# Altium integrated library NSC Switcher.IntLib: 916 symbols (part 21 of 23)
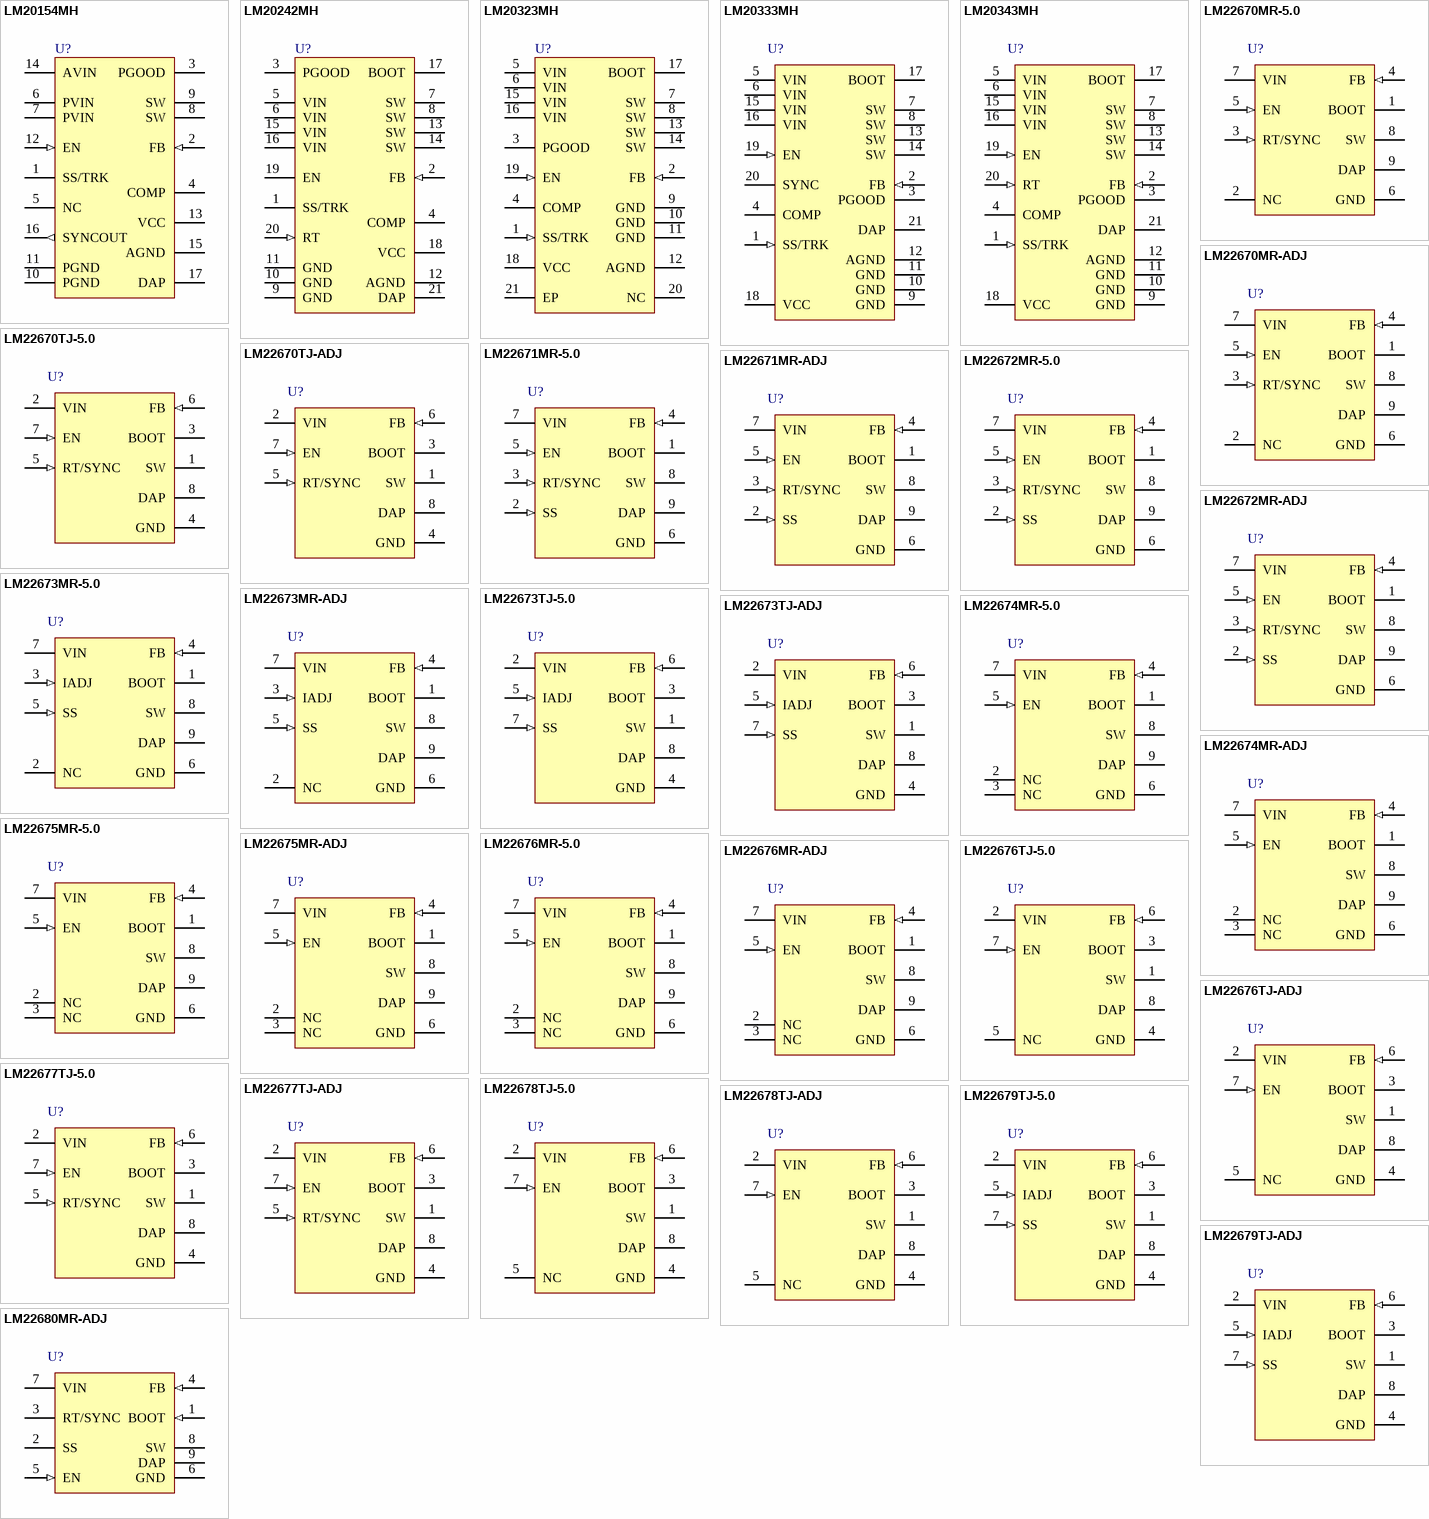
[diagram p48: symbols LM20154MH to LM22680MR-ADJ]

## LM22670MR-ADJ
designator U?
3A SIMPLE SWITCHER, Step-Down Voltage Regulator with Synchronization or Adjustable Switching Frequency; PartNumber: LM22670MR-ADJ; Manufacturer: National Semiconductor; PackageTopMarking: NSXYTT*L22670*ADJ; PowerWise: N; Published: 4-Dec-2008; DatasheetVersion: Oct-2008; PackageVersion: revB, Dec-2007; PackageReference: MRA08B; Publisher: Altium Limited; PackageDescription: Molded, PSOP .193 x .154 x .058in, 8 Lead, .050in Pitch, Large DAP; CompType: Switcher; RoHS: Y; PinCount: 8; DigiKeyPartNumber: LM22670MR-ADJ-ND; Code_JEDEC: MS-012-AA; ComponentLink1Description: LM22670 Datasheet; ComponentLink1URL: http://www.national.com/ds/LM/LM22670.pdf; ComponentLink2Description: LM22670 Web Page; ComponentLink2URL: http://www.national.com/pf/LM/LM22670.html; ComponentLink3Description: MRA08B Package Drawing; ComponentLink3URL: http://www.national.com/packaging/folders/mra08b.html
footprint MRA08B_N (SOIC, 8-Leads, Body 4.9x3.9mm, Pitch 1.27mm, Exposed Pad, IPC Medium Density)
footprint MRA08B_L (SOIC, 8-Leads, Body 4.9x3.9mm, Pitch 1.27mm, Exposed Pad, IPC High Density)
footprint MRA08B_M (SOIC, 8-Leads, Body 4.9x3.9mm, Pitch 1.27mm, Exposed Pad, IPC Low Density)
pins: 1 BOOT, 2 NC, 3 RT/SYNC (in), 4 FB (in), 5 EN (in), 6 GND (power), 7 VIN (power), 8 SW (power), 9 DAP (power)

## LM22670TJ-5.0
designator U?
3A SIMPLE SWITCHER, Step-Down Voltage Regulator with Synchronization or Adjustable Switching Frequency; PartNumber: LM22670TJ-5.0; Manufacturer: National Semiconductor; PackageTopMarking: NSUZXYTTE#*LM22670*TJ-5.0; PowerWise: N; Published: 4-Dec-2008; DatasheetVersion: Oct-2008; PackageVersion: revC, Jan-2008; PackageReference: TJ7A; Publisher: Altium Limited; PackageDescription: Thin TO-263, Molded, 9.85 x 10.16 x 2mm Body, 7 Lead, 1.7mm Pitch, Surface Mount; CompType: Switcher; RoHS: Y; PinCount: 7; DigiKeyPartNumber: LM22670TJ-5.0-ND; ComponentLink1Description: LM22670 Datasheet; ComponentLink1URL: http://www.national.com/ds/LM/LM22670.pdf; ComponentLink2Description: LM22670 Web Page; ComponentLink2URL: http://www.national.com/pf/LM/LM22670.html; ComponentLink3Description: TJ7A Package Drawing; ComponentLink3URL: http://www.national.com/packaging/folders/tj7a.html
footprint TJ7A_N (D2-PAK, 8-Leads, Body 9.9x10.2mm, Pitch 1.27mm, Lead Span 14mm, IPC Medium Density)
footprint TJ7A_L (D2-PAK, 8-Leads, Body 9.9x10.2mm, Pitch 1.27mm, Lead Span 14mm, IPC High Density)
footprint TJ7A_M (D2-PAK, 8-Leads, Body 9.9x10.2mm, Pitch 1.27mm, Lead Span 14mm, IPC Low Density)
pins: 1 SW (power), 2 VIN (power), 3 BOOT, 4 GND (power), 5 RT/SYNC (in), 6 FB (in), 7 EN (in), 8 DAP (power)

## LM22670TJ-ADJ
designator U?
3A SIMPLE SWITCHER, Step-Down Voltage Regulator with Synchronization or Adjustable Switching Frequency; PartNumber: LM22670TJ-ADJ; Manufacturer: National Semiconductor; PackageTopMarking: NSUZXYTTE#*LM22670*TJ-ADJ; PowerWise: N; Published: 4-Dec-2008; DatasheetVersion: Oct-2008; PackageVersion: revC, Jan-2008; PackageReference: TJ7A; Publisher: Altium Limited; PackageDescription: Thin TO-263, Molded, 9.85 x 10.16 x 2mm Body, 7 Lead, 1.7mm Pitch, Surface Mount; CompType: Switcher; RoHS: Y; PinCount: 7; DigiKeyPartNumber: LM22670TJ-ADJ-ND; ComponentLink1Description: LM22670 Datasheet; ComponentLink1URL: http://www.national.com/ds/LM/LM22670.pdf; ComponentLink2Description: LM22670 Web Page; ComponentLink2URL: http://www.national.com/pf/LM/LM22670.html; ComponentLink3Description: TJ7A Package Drawing; ComponentLink3URL: http://www.national.com/packaging/folders/tj7a.html
footprint TJ7A_N (D2-PAK, 8-Leads, Body 9.9x10.2mm, Pitch 1.27mm, Lead Span 14mm, IPC Medium Density)
footprint TJ7A_L (D2-PAK, 8-Leads, Body 9.9x10.2mm, Pitch 1.27mm, Lead Span 14mm, IPC High Density)
footprint TJ7A_M (D2-PAK, 8-Leads, Body 9.9x10.2mm, Pitch 1.27mm, Lead Span 14mm, IPC Low Density)
pins: 1 SW (power), 2 VIN (power), 3 BOOT, 4 GND (power), 5 RT/SYNC (in), 6 FB (in), 7 EN (in), 8 DAP (power)

## LM22671MR-5.0
designator U?
500mA SIMPLE SWITCHER, Step-Down Voltage Regulator with Features; PartNumber: LM22671MR-5.0; Manufacturer: National Semiconductor; PackageTopMarking: NSXYTT*L22671*5.0; PowerWise: N; Published: 4-Dec-2008; DatasheetVersion: Oct-2008; PackageVersion: revB, Dec-2007; PackageReference: MRA08B; Publisher: Altium Limited; PackageDescription: Molded, PSOP .193 x .154 x .058in, 8 Lead, .050in Pitch, Large DAP; CompType: Switcher; RoHS: Y; PinCount: 8; DigiKeyPartNumber: LM22671MR-5.0-ND; Code_JEDEC: MS-012-AA; ComponentLink1Description: LM22671 Datasheet; ComponentLink1URL: http://www.national.com/ds/LM/LM22671.pdf; ComponentLink2Description: LM22671 Web Page; ComponentLink2URL: http://www.national.com/pf/LM/LM22671.html; ComponentLink3Description: MRA08B Package Drawing; ComponentLink3URL: http://www.national.com/packaging/folders/mra08b.html
footprint MRA08B_N (SOIC, 8-Leads, Body 4.9x3.9mm, Pitch 1.27mm, Exposed Pad, IPC Medium Density)
footprint MRA08B_L (SOIC, 8-Leads, Body 4.9x3.9mm, Pitch 1.27mm, Exposed Pad, IPC High Density)
footprint MRA08B_M (SOIC, 8-Leads, Body 4.9x3.9mm, Pitch 1.27mm, Exposed Pad, IPC Low Density)
pins: 1 BOOT, 2 SS (in), 3 RT/SYNC (in), 4 FB (in), 5 EN (in), 6 GND (power), 7 VIN (power), 8 SW (power), 9 DAP (power)

## LM22671MR-ADJ
designator U?
500mA SIMPLE SWITCHER, Step-Down Voltage Regulator with Features; PartNumber: LM22671MR-ADJ; Manufacturer: National Semiconductor; PackageTopMarking: NSXYTT*L22671*ADJ; PowerWise: N; Published: 4-Dec-2008; DatasheetVersion: Oct-2008; PackageVersion: revB, Dec-2007; PackageReference: MRA08B; Publisher: Altium Limited; PackageDescription: Molded, PSOP .193 x .154 x .058in, 8 Lead, .050in Pitch, Large DAP; CompType: Switcher; RoHS: Y; PinCount: 8; DigiKeyPartNumber: LM22671MR-ADJ-ND; Code_JEDEC: MS-012-AA; ComponentLink1Description: LM22671 Datasheet; ComponentLink1URL: http://www.national.com/ds/LM/LM22671.pdf; ComponentLink2Description: LM22671 Web Page; ComponentLink2URL: http://www.national.com/pf/LM/LM22671.html; ComponentLink3Description: MRA08B Package Drawing; ComponentLink3URL: http://www.national.com/packaging/folders/mra08b.html
footprint MRA08B_N (SOIC, 8-Leads, Body 4.9x3.9mm, Pitch 1.27mm, Exposed Pad, IPC Medium Density)
footprint MRA08B_L (SOIC, 8-Leads, Body 4.9x3.9mm, Pitch 1.27mm, Exposed Pad, IPC High Density)
footprint MRA08B_M (SOIC, 8-Leads, Body 4.9x3.9mm, Pitch 1.27mm, Exposed Pad, IPC Low Density)
pins: 1 BOOT, 2 SS (in), 3 RT/SYNC (in), 4 FB (in), 5 EN (in), 6 GND (power), 7 VIN (power), 8 SW (power), 9 DAP (power)

## LM22672MR-5.0
designator U?
1A SIMPLE SWITCHER, Step-Down Voltage Regulator with Features; PartNumber: LM22672MR-5.0; Manufacturer: National Semiconductor; PackageTopMarking: NSXYTT*L22672*5.0; PowerWise: N; Published: 4-Dec-2008; DatasheetVersion: Oct-2008; PackageVersion: revB, Dec-2007; PackageReference: MRA08B; Publisher: Altium Limited; PackageDescription: Molded, PSOP .193 x .154 x .058in, 8 Lead, .050in Pitch, Large DAP; CompType: Switcher; RoHS: Y; PinCount: 8; Code_JEDEC: MS-012-AA; ComponentLink1Description: LM22672 Datasheet; ComponentLink1URL: http://www.national.com/ds/LM/LM22672.pdf; ComponentLink2Description: LM22672 Web Page; ComponentLink2URL: http://www.national.com/pf/LM/LM22672.html; ComponentLink3Description: MRA08B Package Drawing; ComponentLink3URL: http://www.national.com/packaging/folders/mra08b.html
footprint MRA08B_N (SOIC, 8-Leads, Body 4.9x3.9mm, Pitch 1.27mm, Exposed Pad, IPC Medium Density)
footprint MRA08B_L (SOIC, 8-Leads, Body 4.9x3.9mm, Pitch 1.27mm, Exposed Pad, IPC High Density)
footprint MRA08B_M (SOIC, 8-Leads, Body 4.9x3.9mm, Pitch 1.27mm, Exposed Pad, IPC Low Density)
pins: 1 BOOT, 2 SS (in), 3 RT/SYNC (in), 4 FB (in), 5 EN (in), 6 GND (power), 7 VIN (power), 8 SW (power), 9 DAP (power)

## LM22672MR-ADJ
designator U?
1A SIMPLE SWITCHER, Step-Down Voltage Regulator with Features; PartNumber: LM22672MR-ADJ; Manufacturer: National Semiconductor; PackageTopMarking: NSXYTT*L22672*ADJ; PowerWise: N; Published: 4-Dec-2008; DatasheetVersion: Oct-2008; PackageVersion: revB, Dec-2007; PackageReference: MRA08B; Publisher: Altium Limited; PackageDescription: Molded, PSOP .193 x .154 x .058in, 8 Lead, .050in Pitch, Large DAP; CompType: Switcher; RoHS: Y; PinCount: 8; DigiKeyPartNumber: LM22672MR-ADJ-ND; Code_JEDEC: MS-012-AA; ComponentLink1Description: LM22672 Datasheet; ComponentLink1URL: http://www.national.com/ds/LM/LM22672.pdf; ComponentLink2Description: LM22672 Web Page; ComponentLink2URL: http://www.national.com/pf/LM/LM22672.html; ComponentLink3Description: MRA08B Package Drawing; ComponentLink3URL: http://www.national.com/packaging/folders/mra08b.html
footprint MRA08B_N (SOIC, 8-Leads, Body 4.9x3.9mm, Pitch 1.27mm, Exposed Pad, IPC Medium Density)
footprint MRA08B_L (SOIC, 8-Leads, Body 4.9x3.9mm, Pitch 1.27mm, Exposed Pad, IPC High Density)
footprint MRA08B_M (SOIC, 8-Leads, Body 4.9x3.9mm, Pitch 1.27mm, Exposed Pad, IPC Low Density)
pins: 1 BOOT, 2 SS (in), 3 RT/SYNC (in), 4 FB (in), 5 EN (in), 6 GND (power), 7 VIN (power), 8 SW (power), 9 DAP (power)

## LM22673MR-5.0
designator U?
3A SIMPLE SWITCHER, Step-Down Voltage Regulator with Adjustable Soft-Start and Current Limit; PartNumber: LM22673MR-5.0; Manufacturer: National Semiconductor; PackageTopMarking: NSXYTT*L22673*5.0; PowerWise: N; Published: 4-Dec-2008; DatasheetVersion: Nov-2008; PackageVersion: revB, Dec-2007; PackageReference: MRA08B; Publisher: Altium Limited; PackageDescription: Molded, PSOP .193 x .154 x .058in, 8 Lead, .050in Pitch, Large DAP; CompType: Switcher; RoHS: Y; PinCount: 8; DigiKeyPartNumber: LM22673MR-5.0-ND; Code_JEDEC: MS-012-AA; ComponentLink1Description: LM22673 Datasheet; ComponentLink1URL: http://www.national.com/ds/LM/LM22673.pdf; ComponentLink2Description: LM22673 Web Page; ComponentLink2URL: http://www.national.com/pf/LM/LM22673.html; ComponentLink3Description: MRA08B Package Drawing; ComponentLink3URL: http://www.national.com/packaging/folders/mra08b.html
footprint MRA08B_N (SOIC, 8-Leads, Body 4.9x3.9mm, Pitch 1.27mm, Exposed Pad, IPC Medium Density)
footprint MRA08B_L (SOIC, 8-Leads, Body 4.9x3.9mm, Pitch 1.27mm, Exposed Pad, IPC High Density)
footprint MRA08B_M (SOIC, 8-Leads, Body 4.9x3.9mm, Pitch 1.27mm, Exposed Pad, IPC Low Density)
pins: 1 BOOT, 2 NC, 3 IADJ (in), 4 FB (in), 5 SS (in), 6 GND (power), 7 VIN (power), 8 SW (power), 9 DAP (power)

## LM22673MR-ADJ
designator U?
3A SIMPLE SWITCHER, Step-Down Voltage Regulator with Adjustable Soft-Start and Current Limit; PartNumber: LM22673MR-ADJ; Manufacturer: National Semiconductor; PackageTopMarking: NSXYTT*L22673*ADJ; PowerWise: N; Published: 4-Dec-2008; DatasheetVersion: Nov-2008; PackageVersion: revB, Dec-2007; PackageReference: MRA08B; Publisher: Altium Limited; PackageDescription: Molded, PSOP .193 x .154 x .058in, 8 Lead, .050in Pitch, Large DAP; CompType: Switcher; RoHS: Y; PinCount: 8; DigiKeyPartNumber: LM22673MR-ADJ-ND; Code_JEDEC: MS-012-AA; ComponentLink1Description: LM22673 Datasheet; ComponentLink1URL: http://www.national.com/ds/LM/LM22673.pdf; ComponentLink2Description: LM22673 Web Page; ComponentLink2URL: http://www.national.com/pf/LM/LM22673.html; ComponentLink3Description: MRA08B Package Drawing; ComponentLink3URL: http://www.national.com/packaging/folders/mra08b.html
footprint MRA08B_N (SOIC, 8-Leads, Body 4.9x3.9mm, Pitch 1.27mm, Exposed Pad, IPC Medium Density)
footprint MRA08B_L (SOIC, 8-Leads, Body 4.9x3.9mm, Pitch 1.27mm, Exposed Pad, IPC High Density)
footprint MRA08B_M (SOIC, 8-Leads, Body 4.9x3.9mm, Pitch 1.27mm, Exposed Pad, IPC Low Density)
pins: 1 BOOT, 2 NC, 3 IADJ (in), 4 FB (in), 5 SS (in), 6 GND (power), 7 VIN (power), 8 SW (power), 9 DAP (power)

## LM22673TJ-5.0
designator U?
3A SIMPLE SWITCHER, Step-Down Voltage Regulator with Adjustable Soft-Start and Current Limit; PartNumber: LM22673TJ-5.0; Manufacturer: National Semiconductor; PackageTopMarking: NSUZXYTTE#*LM22673*TJ-5.0; PowerWise: N; Published: 4-Dec-2008; DatasheetVersion: Nov-2008; PackageVersion: revC, Jan-2008; PackageReference: TJ7A; Publisher: Altium Limited; PackageDescription: Thin TO-263, Molded, 9.85 x 10.16 x 2mm Body, 7 Lead, 1.7mm Pitch, Surface Mount; CompType: Switcher; RoHS: Y; PinCount: 7; DigiKeyPartNumber: LM22673TJ-5.0-ND; ComponentLink1Description: LM22673 Datasheet; ComponentLink1URL: http://www.national.com/ds/LM/LM22673.pdf; ComponentLink2Description: LM22673 Web Page; ComponentLink2URL: http://www.national.com/pf/LM/LM22673.html; ComponentLink3Description: TJ7A Package Drawing; ComponentLink3URL: http://www.national.com/packaging/folders/tj7a.html
footprint TJ7A_N (D2-PAK, 8-Leads, Body 9.9x10.2mm, Pitch 1.27mm, Lead Span 14mm, IPC Medium Density)
footprint TJ7A_L (D2-PAK, 8-Leads, Body 9.9x10.2mm, Pitch 1.27mm, Lead Span 14mm, IPC High Density)
footprint TJ7A_M (D2-PAK, 8-Leads, Body 9.9x10.2mm, Pitch 1.27mm, Lead Span 14mm, IPC Low Density)
pins: 1 SW (power), 2 VIN (power), 3 BOOT, 4 GND (power), 5 IADJ (in), 6 FB (in), 7 SS (in), 8 DAP (power)

## LM22673TJ-ADJ
designator U?
3A SIMPLE SWITCHER, Step-Down Voltage Regulator with Adjustable Soft-Start and Current Limit; PartNumber: LM22673TJ-ADJ; Manufacturer: National Semiconductor; PackageTopMarking: NSUZXYTTE#*LM22673*TJ-ADJ; PowerWise: N; Published: 4-Dec-2008; DatasheetVersion: Nov-2008; PackageVersion: revC, Jan-2008; PackageReference: TJ7A; Publisher: Altium Limited; PackageDescription: Thin TO-263, Molded, 9.85 x 10.16 x 2mm Body, 7 Lead, 1.7mm Pitch, Surface Mount; CompType: Switcher; RoHS: Y; PinCount: 7; DigiKeyPartNumber: LM22673TJ-ADJ-ND; ComponentLink1Description: LM22673 Datasheet; ComponentLink1URL: http://www.national.com/ds/LM/LM22673.pdf; ComponentLink2Description: LM22673 Web Page; ComponentLink2URL: http://www.national.com/pf/LM/LM22673.html; ComponentLink3Description: TJ7A Package Drawing; ComponentLink3URL: http://www.national.com/packaging/folders/tj7a.html
footprint TJ7A_N (D2-PAK, 8-Leads, Body 9.9x10.2mm, Pitch 1.27mm, Lead Span 14mm, IPC Medium Density)
footprint TJ7A_L (D2-PAK, 8-Leads, Body 9.9x10.2mm, Pitch 1.27mm, Lead Span 14mm, IPC High Density)
footprint TJ7A_M (D2-PAK, 8-Leads, Body 9.9x10.2mm, Pitch 1.27mm, Lead Span 14mm, IPC Low Density)
pins: 1 SW (power), 2 VIN (power), 3 BOOT, 4 GND (power), 5 IADJ (in), 6 FB (in), 7 SS (in), 8 DAP (power)

## LM22674MR-5.0
designator U?
500mA SIMPLE SWITCHER, Step-Down Voltage Regulator with Precision Enable; PartNumber: LM22674MR-5.0; Manufacturer: National Semiconductor; PackageTopMarking: NSXYTT*L22674*5.0; PowerWise: N; Published: 4-Dec-2008; DatasheetVersion: Oct-2008; PackageVersion: revB, Dec-2007; PackageReference: MRA08B; Publisher: Altium Limited; PackageDescription: Molded, PSOP .193 x .154 x .058in, 8 Lead, .050in Pitch, Large DAP; CompType: Switcher; RoHS: Y; PinCount: 8; DigiKeyPartNumber: LM22674MR-5.0-ND; Code_JEDEC: MS-012-AA; ComponentLink1Description: LM22674 Datasheet; ComponentLink1URL: http://www.national.com/ds/LM/LM22674.pdf; ComponentLink2Description: LM22674 Web Page; ComponentLink2URL: http://www.national.com/pf/LM/LM22674.html; ComponentLink3Description: MRA08B Package Drawing; ComponentLink3URL: http://www.national.com/packaging/folders/mra08b.html
footprint MRA08B_N (SOIC, 8-Leads, Body 4.9x3.9mm, Pitch 1.27mm, Exposed Pad, IPC Medium Density)
footprint MRA08B_L (SOIC, 8-Leads, Body 4.9x3.9mm, Pitch 1.27mm, Exposed Pad, IPC High Density)
footprint MRA08B_M (SOIC, 8-Leads, Body 4.9x3.9mm, Pitch 1.27mm, Exposed Pad, IPC Low Density)
pins: 1 BOOT, 2 NC, 3 NC, 4 FB (in), 5 EN (in), 6 GND (power), 7 VIN (power), 8 SW (power), 9 DAP (power)

## LM22674MR-ADJ
designator U?
500mA SIMPLE SWITCHER, Step-Down Voltage Regulator with Precision Enable; PartNumber: LM22674MR-ADJ; Manufacturer: National Semiconductor; PackageTopMarking: NSXYTT*L22674*ADJ; PowerWise: N; Published: 4-Dec-2008; DatasheetVersion: Oct-2008; PackageVersion: revB, Dec-2007; PackageReference: MRA08B; Publisher: Altium Limited; PackageDescription: Molded, PSOP .193 x .154 x .058in, 8 Lead, .050in Pitch, Large DAP; CompType: Switcher; RoHS: Y; PinCount: 8; DigiKeyPartNumber: LM22674MR-ADJ-ND; Code_JEDEC: MS-012-AA; ComponentLink1Description: LM22674 Datasheet; ComponentLink1URL: http://www.national.com/ds/LM/LM22674.pdf; ComponentLink2Description: LM22674 Web Page; ComponentLink2URL: http://www.national.com/pf/LM/LM22674.html; ComponentLink3Description: MRA08B Package Drawing; ComponentLink3URL: http://www.national.com/packaging/folders/mra08b.html
footprint MRA08B_N (SOIC, 8-Leads, Body 4.9x3.9mm, Pitch 1.27mm, Exposed Pad, IPC Medium Density)
footprint MRA08B_L (SOIC, 8-Leads, Body 4.9x3.9mm, Pitch 1.27mm, Exposed Pad, IPC High Density)
footprint MRA08B_M (SOIC, 8-Leads, Body 4.9x3.9mm, Pitch 1.27mm, Exposed Pad, IPC Low Density)
pins: 1 BOOT, 2 NC, 3 NC, 4 FB (in), 5 EN (in), 6 GND (power), 7 VIN (power), 8 SW (power), 9 DAP (power)

## LM22675MR-5.0
designator U?
1A SIMPLE SWITCHER, Step-Down Voltage Regulator with Precision Enable; PartNumber: LM22675MR-5.0; Manufacturer: National Semiconductor; PackageTopMarking: NSXYTT*L22675*5.0; PowerWise: N; Published: 4-Dec-2008; DatasheetVersion: Oct-2008; PackageVersion: revB, Dec-2007; PackageReference: MRA08B; Publisher: Altium Limited; PackageDescription: Molded, PSOP .193 x .154 x .058in, 8 Lead, .050in Pitch, Large DAP; CompType: Switcher; RoHS: Y; PinCount: 8; DigiKeyPartNumber: LM22675MR-5.0-ND; Code_JEDEC: MS-012-AA; ComponentLink1Description: LM22675 Datasheet; ComponentLink1URL: http://www.national.com/ds/LM/LM22675.pdf; ComponentLink2Description: LM22675 Web Page; ComponentLink2URL: http://www.national.com/pf/LM/LM22675.html; ComponentLink3Description: MRA08B Package Drawing; ComponentLink3URL: http://www.national.com/packaging/folders/mra08b.html
footprint MRA08B_N (SOIC, 8-Leads, Body 4.9x3.9mm, Pitch 1.27mm, Exposed Pad, IPC Medium Density)
footprint MRA08B_L (SOIC, 8-Leads, Body 4.9x3.9mm, Pitch 1.27mm, Exposed Pad, IPC High Density)
footprint MRA08B_M (SOIC, 8-Leads, Body 4.9x3.9mm, Pitch 1.27mm, Exposed Pad, IPC Low Density)
pins: 1 BOOT, 2 NC, 3 NC, 4 FB (in), 5 EN (in), 6 GND (power), 7 VIN (power), 8 SW (power), 9 DAP (power)

## LM22675MR-ADJ
designator U?
1A SIMPLE SWITCHER, Step-Down Voltage Regulator with Precision Enable; PartNumber: LM22675MR-ADJ; Manufacturer: National Semiconductor; PackageTopMarking: NSXYTT*L22675*ADJ; PowerWise: N; Published: 4-Dec-2008; DatasheetVersion: Oct-2008; PackageVersion: revB, Dec-2007; PackageReference: MRA08B; Publisher: Altium Limited; PackageDescription: Molded, PSOP .193 x .154 x .058in, 8 Lead, .050in Pitch, Large DAP; CompType: Switcher; RoHS: Y; PinCount: 8; DigiKeyPartNumber: LM22675MR-ADJ-ND; Code_JEDEC: MS-012-AA; ComponentLink1Description: LM22675 Datasheet; ComponentLink1URL: http://www.national.com/ds/LM/LM22675.pdf; ComponentLink2Description: LM22675 Web Page; ComponentLink2URL: http://www.national.com/pf/LM/LM22675.html; ComponentLink3Description: MRA08B Package Drawing; ComponentLink3URL: http://www.national.com/packaging/folders/mra08b.html
footprint MRA08B_N (SOIC, 8-Leads, Body 4.9x3.9mm, Pitch 1.27mm, Exposed Pad, IPC Medium Density)
footprint MRA08B_L (SOIC, 8-Leads, Body 4.9x3.9mm, Pitch 1.27mm, Exposed Pad, IPC High Density)
footprint MRA08B_M (SOIC, 8-Leads, Body 4.9x3.9mm, Pitch 1.27mm, Exposed Pad, IPC Low Density)
pins: 1 BOOT, 2 NC, 3 NC, 4 FB (in), 5 EN (in), 6 GND (power), 7 VIN (power), 8 SW (power), 9 DAP (power)

## LM22676MR-5.0
designator U?
3A SIMPLE SWITCHER, Step-Down Voltage Regulator with Precision Enable; PartNumber: LM22676MR-5.0; Manufacturer: National Semiconductor; PackageTopMarking: NSXYTT*L22676*5.0; PowerWise: N; Published: 4-Dec-2008; DatasheetVersion: Oct-2008; PackageVersion: revB, Dec-2007; PackageReference: MRA08B; Publisher: Altium Limited; PackageDescription: Molded, PSOP .193 x .154 x .058in, 8 Lead, .050in Pitch, Large DAP; CompType: Switcher; RoHS: Y; PinCount: 8; DigiKeyPartNumber: LM22676MR-5.0-ND; Code_JEDEC: MS-012-AA; ComponentLink1Description: LM22676 Datasheet; ComponentLink1URL: http://www.national.com/ds/LM/LM22676.pdf; ComponentLink2Description: LM22676 Web Page; ComponentLink2URL: http://www.national.com/pf/LM/LM22676.html; ComponentLink3Description: MRA08B Package Drawing; ComponentLink3URL: http://www.national.com/packaging/folders/mra08b.html
footprint MRA08B_N (SOIC, 8-Leads, Body 4.9x3.9mm, Pitch 1.27mm, Exposed Pad, IPC Medium Density)
footprint MRA08B_L (SOIC, 8-Leads, Body 4.9x3.9mm, Pitch 1.27mm, Exposed Pad, IPC High Density)
footprint MRA08B_M (SOIC, 8-Leads, Body 4.9x3.9mm, Pitch 1.27mm, Exposed Pad, IPC Low Density)
pins: 1 BOOT, 2 NC, 3 NC, 4 FB (in), 5 EN (in), 6 GND (power), 7 VIN (power), 8 SW (power), 9 DAP (power)

## LM22676MR-ADJ
designator U?
3A SIMPLE SWITCHER, Step-Down Voltage Regulator with Precision Enable; PartNumber: LM22676MR-ADJ; Manufacturer: National Semiconductor; PackageTopMarking: NSXYTT*L22676*ADJ; PowerWise: N; Published: 4-Dec-2008; DatasheetVersion: Oct-2008; PackageVersion: revB, Dec-2007; PackageReference: MRA08B; Publisher: Altium Limited; PackageDescription: Molded, PSOP .193 x .154 x .058in, 8 Lead, .050in Pitch, Large DAP; CompType: Switcher; RoHS: Y; PinCount: 8; DigiKeyPartNumber: LM22676MR-ADJ-ND; Code_JEDEC: MS-012-AA; ComponentLink1Description: LM22676 Datasheet; ComponentLink1URL: http://www.national.com/ds/LM/LM22676.pdf; ComponentLink2Description: LM22676 Web Page; ComponentLink2URL: http://www.national.com/pf/LM/LM22676.html; ComponentLink3Description: MRA08B Package Drawing; ComponentLink3URL: http://www.national.com/packaging/folders/mra08b.html
footprint MRA08B_N (SOIC, 8-Leads, Body 4.9x3.9mm, Pitch 1.27mm, Exposed Pad, IPC Medium Density)
footprint MRA08B_L (SOIC, 8-Leads, Body 4.9x3.9mm, Pitch 1.27mm, Exposed Pad, IPC High Density)
footprint MRA08B_M (SOIC, 8-Leads, Body 4.9x3.9mm, Pitch 1.27mm, Exposed Pad, IPC Low Density)
pins: 1 BOOT, 2 NC, 3 NC, 4 FB (in), 5 EN (in), 6 GND (power), 7 VIN (power), 8 SW (power), 9 DAP (power)

## LM22676TJ-5.0
designator U?
3A SIMPLE SWITCHER, Step-Down Voltage Regulator with Precision Enable; PartNumber: LM22676TJ-5.0; Manufacturer: National Semiconductor; PackageTopMarking: NSUZXYTTE#*LM22676*TJ-5.0; PowerWise: N; Published: 4-Dec-2008; DatasheetVersion: Oct-2008; PackageVersion: revC, Jan-2008; PackageReference: TJ7A; Publisher: Altium Limited; PackageDescription: Thin TO-263, Molded, 9.85 x 10.16 x 2mm Body, 7 Lead, 1.7mm Pitch, Surface Mount; CompType: Switcher; RoHS: Y; PinCount: 7; DigiKeyPartNumber: LM22676TJ-5.0-ND; ComponentLink1Description: LM22676 Datasheet; ComponentLink1URL: http://www.national.com/ds/LM/LM22676.pdf; ComponentLink2Description: LM22676 Web Page; ComponentLink2URL: http://www.national.com/pf/LM/LM22676.html; ComponentLink3Description: TJ7A Package Drawing; ComponentLink3URL: http://www.national.com/packaging/folders/tj7a.html
footprint TJ7A_N (D2-PAK, 8-Leads, Body 9.9x10.2mm, Pitch 1.27mm, Lead Span 14mm, IPC Medium Density)
footprint TJ7A_L (D2-PAK, 8-Leads, Body 9.9x10.2mm, Pitch 1.27mm, Lead Span 14mm, IPC High Density)
footprint TJ7A_M (D2-PAK, 8-Leads, Body 9.9x10.2mm, Pitch 1.27mm, Lead Span 14mm, IPC Low Density)
pins: 1 SW (power), 2 VIN (power), 3 BOOT, 4 GND (power), 5 NC, 6 FB (in), 7 EN (in), 8 DAP (power)

## LM22676TJ-ADJ
designator U?
3A SIMPLE SWITCHER, Step-Down Voltage Regulator with Precision Enable; PartNumber: LM22676TJ-ADJ; Manufacturer: National Semiconductor; PackageTopMarking: NSUZXYTTE#*LM22676*TJ-ADJ; PowerWise: N; Published: 4-Dec-2008; DatasheetVersion: Oct-2008; PackageVersion: revC, Jan-2008; PackageReference: TJ7A; Publisher: Altium Limited; PackageDescription: Thin TO-263, Molded, 9.85 x 10.16 x 2mm Body, 7 Lead, 1.7mm Pitch, Surface Mount; CompType: Switcher; RoHS: Y; PinCount: 7; DigiKeyPartNumber: LM22676TJ-ADJ-ND; ComponentLink1Description: LM22676 Datasheet; ComponentLink1URL: http://www.national.com/ds/LM/LM22676.pdf; ComponentLink2Description: LM22676 Web Page; ComponentLink2URL: http://www.national.com/pf/LM/LM22676.html; ComponentLink3Description: TJ7A Package Drawing; ComponentLink3URL: http://www.national.com/packaging/folders/tj7a.html
footprint TJ7A_N (D2-PAK, 8-Leads, Body 9.9x10.2mm, Pitch 1.27mm, Lead Span 14mm, IPC Medium Density)
footprint TJ7A_L (D2-PAK, 8-Leads, Body 9.9x10.2mm, Pitch 1.27mm, Lead Span 14mm, IPC High Density)
footprint TJ7A_M (D2-PAK, 8-Leads, Body 9.9x10.2mm, Pitch 1.27mm, Lead Span 14mm, IPC Low Density)
pins: 1 SW (power), 2 VIN (power), 3 BOOT, 4 GND (power), 5 NC, 6 FB (in), 7 EN (in), 8 DAP (power)

## LM22677TJ-5.0
designator U?
5A SIMPLE SWITCHER, Step-Down Voltage Regulator with Synchronization or Adjustable Switching Frequency; PartNumber: LM22677TJ-5.0; Manufacturer: National Semiconductor; PackageTopMarking: NSUZXYTTE#*LM22677*TJ-5.0; PowerWise: N; Published: 4-Dec-2008; DatasheetVersion: Oct-2008; PackageVersion: revC, Jan-2008; PackageReference: TJ7A; Publisher: Altium Limited; PackageDescription: Thin TO-263, Molded, 9.85 x 10.16 x 2mm Body, 7 Lead, 1.7mm Pitch, Surface Mount; CompType: Switcher; RoHS: Y; PinCount: 7; DigiKeyPartNumber: LM22677TJ-5.0-ND; ComponentLink1Description: LM22677 Datasheet; ComponentLink1URL: http://www.national.com/ds/LM/LM22677.pdf; ComponentLink2Description: LM22677 Web Page; ComponentLink2URL: http://www.national.com/pf/LM/LM22677.html; ComponentLink3Description: TJ7A Package Drawing; ComponentLink3URL: http://www.national.com/packaging/folders/tj7a.html
footprint TJ7A_N (D2-PAK, 8-Leads, Body 9.9x10.2mm, Pitch 1.27mm, Lead Span 14mm, IPC Medium Density)
footprint TJ7A_L (D2-PAK, 8-Leads, Body 9.9x10.2mm, Pitch 1.27mm, Lead Span 14mm, IPC High Density)
footprint TJ7A_M (D2-PAK, 8-Leads, Body 9.9x10.2mm, Pitch 1.27mm, Lead Span 14mm, IPC Low Density)
pins: 1 SW (power), 2 VIN (power), 3 BOOT, 4 GND (power), 5 RT/SYNC (in), 6 FB (in), 7 EN (in), 8 DAP (power)

## LM22677TJ-ADJ
designator U?
5A SIMPLE SWITCHER, Step-Down Voltage Regulator with Synchronization or Adjustable Switching Frequency; PartNumber: LM22677TJ-ADJ; Manufacturer: National Semiconductor; PackageTopMarking: NSUZXYTTE#*LM22677*TJ-ADJ; PowerWise: N; Published: 4-Dec-2008; DatasheetVersion: Oct-2008; PackageVersion: revC, Jan-2008; PackageReference: TJ7A; Publisher: Altium Limited; PackageDescription: Thin TO-263, Molded, 9.85 x 10.16 x 2mm Body, 7 Lead, 1.7mm Pitch, Surface Mount; CompType: Switcher; RoHS: Y; PinCount: 7; DigiKeyPartNumber: LM22677TJ-ADJ-ND; ComponentLink1Description: LM22677 Datasheet; ComponentLink1URL: http://www.national.com/ds/LM/LM22677.pdf; ComponentLink2Description: LM22677 Web Page; ComponentLink2URL: http://www.national.com/pf/LM/LM22677.html; ComponentLink3Description: TJ7A Package Drawing; ComponentLink3URL: http://www.national.com/packaging/folders/tj7a.html
footprint TJ7A_N (D2-PAK, 8-Leads, Body 9.9x10.2mm, Pitch 1.27mm, Lead Span 14mm, IPC Medium Density)
footprint TJ7A_L (D2-PAK, 8-Leads, Body 9.9x10.2mm, Pitch 1.27mm, Lead Span 14mm, IPC High Density)
footprint TJ7A_M (D2-PAK, 8-Leads, Body 9.9x10.2mm, Pitch 1.27mm, Lead Span 14mm, IPC Low Density)
pins: 1 SW (power), 2 VIN (power), 3 BOOT, 4 GND (power), 5 RT/SYNC (in), 6 FB (in), 7 EN (in), 8 DAP (power)

## LM22678TJ-5.0
designator U?
5A SIMPLE SWITCHER, Step-Down Voltage Regulator with Precision Enable; PartNumber: LM22678TJ-5.0; Manufacturer: National Semiconductor; PackageTopMarking: NSUZXYTTE#*LM22678*TJ-5.0; PowerWise: N; Published: 4-Dec-2008; DatasheetVersion: Oct-2008; PackageVersion: revC, Jan-2008; PackageReference: TJ7A; Publisher: Altium Limited; PackageDescription: Thin TO-263, Molded, 9.85 x 10.16 x 2mm Body, 7 Lead, 1.7mm Pitch, Surface Mount; CompType: Switcher; RoHS: Y; PinCount: 7; DigiKeyPartNumber: LM22678TJ-5.0-ND; ComponentLink1Description: LM22678 Datasheet; ComponentLink1URL: http://www.national.com/ds/LM/LM22678.pdf; ComponentLink2Description: LM22678 Web Page; ComponentLink2URL: http://www.national.com/pf/LM/LM22678.html; ComponentLink3Description: TJ7A Package Drawing; ComponentLink3URL: http://www.national.com/packaging/folders/tj7a.html
footprint TJ7A_N (D2-PAK, 8-Leads, Body 9.9x10.2mm, Pitch 1.27mm, Lead Span 14mm, IPC Medium Density)
footprint TJ7A_L (D2-PAK, 8-Leads, Body 9.9x10.2mm, Pitch 1.27mm, Lead Span 14mm, IPC High Density)
footprint TJ7A_M (D2-PAK, 8-Leads, Body 9.9x10.2mm, Pitch 1.27mm, Lead Span 14mm, IPC Low Density)
pins: 1 SW (power), 2 VIN (power), 3 BOOT, 4 GND (power), 5 NC, 6 FB (in), 7 EN (in), 8 DAP (power)

## LM22678TJ-ADJ
designator U?
5A SIMPLE SWITCHER, Step-Down Voltage Regulator with Precision Enable; PartNumber: LM22678TJ-ADJ; Manufacturer: National Semiconductor; PackageTopMarking: NSUZXYTTE#*LM22678*TJ-ADJ; PowerWise: N; Published: 4-Dec-2008; DatasheetVersion: Oct-2008; PackageVersion: revC, Jan-2008; PackageReference: TJ7A; Publisher: Altium Limited; PackageDescription: Thin TO-263, Molded, 9.85 x 10.16 x 2mm Body, 7 Lead, 1.7mm Pitch, Surface Mount; CompType: Switcher; RoHS: Y; PinCount: 7; DigiKeyPartNumber: LM22678TJ-ADJ-ND; ComponentLink1Description: LM22678 Datasheet; ComponentLink1URL: http://www.national.com/ds/LM/LM22678.pdf; ComponentLink2Description: LM22678 Web Page; ComponentLink2URL: http://www.national.com/pf/LM/LM22678.html; ComponentLink3Description: TJ7A Package Drawing; ComponentLink3URL: http://www.national.com/packaging/folders/tj7a.html
footprint TJ7A_N (D2-PAK, 8-Leads, Body 9.9x10.2mm, Pitch 1.27mm, Lead Span 14mm, IPC Medium Density)
footprint TJ7A_L (D2-PAK, 8-Leads, Body 9.9x10.2mm, Pitch 1.27mm, Lead Span 14mm, IPC High Density)
footprint TJ7A_M (D2-PAK, 8-Leads, Body 9.9x10.2mm, Pitch 1.27mm, Lead Span 14mm, IPC Low Density)
pins: 1 SW (power), 2 VIN (power), 3 BOOT, 4 GND (power), 5 NC, 6 FB (in), 7 EN (in), 8 DAP (power)

## LM22679TJ-5.0
designator U?
5A SIMPLE SWITCHER, Step-Down Voltage Regulator with Adjustable Soft-Start and Current Limit; PartNumber: LM22679TJ-5.0; Manufacturer: National Semiconductor; PackageTopMarking: NSUZXYTTE#*LM22679*TJ-5.0; PowerWise: N; Published: 4-Dec-2008; DatasheetVersion: Oct-2008; PackageVersion: revC, Jan-2008; PackageReference: TJ7A; Publisher: Altium Limited; PackageDescription: Thin TO-263, Molded, 9.85 x 10.16 x 2mm Body, 7 Lead, 1.7mm Pitch, Surface Mount; CompType: Switcher; RoHS: Y; PinCount: 7; DigiKeyPartNumber: LM22679TJ-5.0-ND; ComponentLink1Description: LM22679 Datasheet; ComponentLink1URL: http://www.national.com/ds/LM/LM22679.pdf; ComponentLink2Description: LM22679 Web Page; ComponentLink2URL: http://www.national.com/pf/LM/LM22679.html; ComponentLink3Description: TJ7A Package Drawing; ComponentLink3URL: http://www.national.com/packaging/folders/tj7a.html
footprint TJ7A_N (D2-PAK, 8-Leads, Body 9.9x10.2mm, Pitch 1.27mm, Lead Span 14mm, IPC Medium Density)
footprint TJ7A_L (D2-PAK, 8-Leads, Body 9.9x10.2mm, Pitch 1.27mm, Lead Span 14mm, IPC High Density)
footprint TJ7A_M (D2-PAK, 8-Leads, Body 9.9x10.2mm, Pitch 1.27mm, Lead Span 14mm, IPC Low Density)
pins: 1 SW (power), 2 VIN (power), 3 BOOT, 4 GND (power), 5 IADJ (in), 6 FB (in), 7 SS (in), 8 DAP (power)

## LM22679TJ-ADJ
designator U?
5A SIMPLE SWITCHER, Step-Down Voltage Regulator with Adjustable Soft-Start and Current Limit; PartNumber: LM22679TJ-ADJ; Manufacturer: National Semiconductor; PackageTopMarking: NSUZXYTTE#*LM22679*TJ-ADJ; PowerWise: N; Published: 4-Dec-2008; DatasheetVersion: Oct-2008; PackageVersion: revC, Jan-2008; PackageReference: TJ7A; Publisher: Altium Limited; PackageDescription: Thin TO-263, Molded, 9.85 x 10.16 x 2mm Body, 7 Lead, 1.7mm Pitch, Surface Mount; CompType: Switcher; RoHS: Y; PinCount: 7; DigiKeyPartNumber: LM22679TJ-ADJ-ND; ComponentLink1Description: LM22679 Datasheet; ComponentLink1URL: http://www.national.com/ds/LM/LM22679.pdf; ComponentLink2Description: LM22679 Web Page; ComponentLink2URL: http://www.national.com/pf/LM/LM22679.html; ComponentLink3Description: TJ7A Package Drawing; ComponentLink3URL: http://www.national.com/packaging/folders/tj7a.html
footprint TJ7A_N (D2-PAK, 8-Leads, Body 9.9x10.2mm, Pitch 1.27mm, Lead Span 14mm, IPC Medium Density)
footprint TJ7A_L (D2-PAK, 8-Leads, Body 9.9x10.2mm, Pitch 1.27mm, Lead Span 14mm, IPC High Density)
footprint TJ7A_M (D2-PAK, 8-Leads, Body 9.9x10.2mm, Pitch 1.27mm, Lead Span 14mm, IPC Low Density)
pins: 1 SW (power), 2 VIN (power), 3 BOOT, 4 GND (power), 5 IADJ (in), 6 FB (in), 7 SS (in), 8 DAP (power)

## LM22680MR-ADJ
designator U?
2A SIMPLE SWITCHER®, Step-Down Voltage Regulator with Features; PartNumber: LM22680MR-ADJ; Manufacturer: National Semiconductor; PackageTopMarking: NSXYTT*L22680*-ADJ; PowerWise: N; Published: 29-May-2009; DatasheetVersion: Dec-2008; PackageVersion: revB, Dec-2007; PackageReference: MRA08B; Publisher: Altium Limited; PackageDescription: Molded, PSOP .193 x .154 x .058in, 8 Lead, .050in Pitch, Large DAP; CompType: Switcher; RoHS: Y; PinCount: 8; DigiKeyPartNumber: LM22680MR-ADJ-ND; Code_JEDEC: MS-012-AA; ComponentLink1Description: LM22680 Datasheet; ComponentLink1URL: http://www.national.com/ds/LM/LM22680.pdf; ComponentLink2Description: LM22680 Web Page; ComponentLink2URL: http://www.national.com/pf/LM/LM22680.html; ComponentLink3Description: MRA08B Package Page; ComponentLink3URL: http://www.national.com/packaging/folders/mra08b.html
footprint MRA08B_N (SOIC, 8-Leads, Body 4.9x3.9mm, Pitch 1.27mm, Exposed Pad, IPC Medium Density)
footprint MRA08B_L (SOIC, 8-Leads, Body 4.9x3.9mm, Pitch 1.27mm, Exposed Pad, IPC High Density)
footprint MRA08B_M (SOIC, 8-Leads, Body 4.9x3.9mm, Pitch 1.27mm, Exposed Pad, IPC Low Density)
pins: 1 BOOT (in), 2 SS, 3 RT/SYNC, 4 FB (in), 5 EN (in), 6 GND (power), 7 VIN (power), 8 SW, 9 DAP

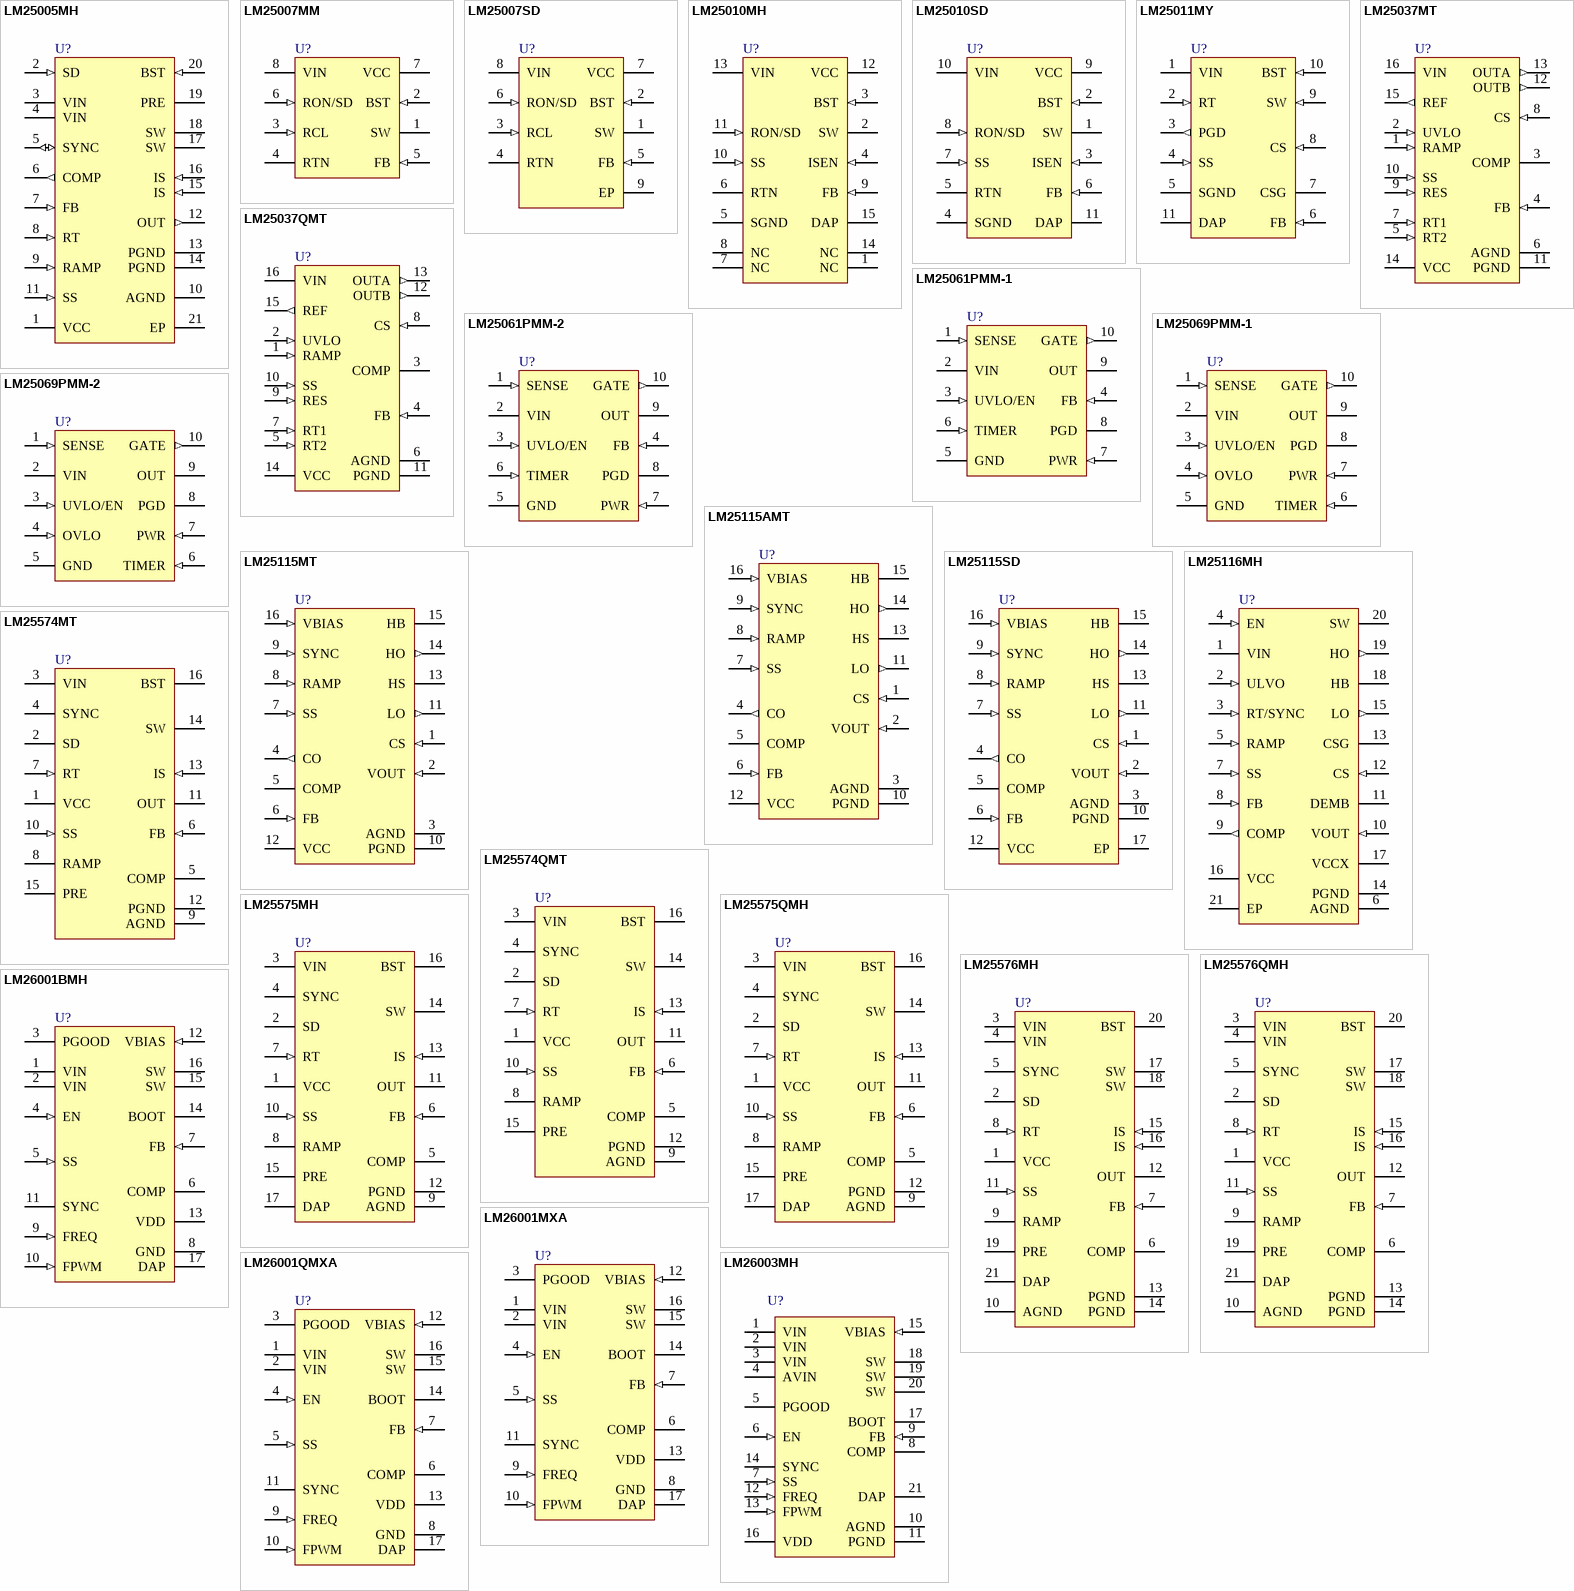
[diagram p25: symbols LM25005MH to LM26003MH]

## LM25005MH
designator U?
42V, 2.5A Step-Down Switching Regulator; PartNumber: LM25005MH; Manufacturer: National Semiconductor; CompType: Switcher; PackageTopMarking: NSUZXYTT*LM25005*MH; Published: 4-Dec-2008; DatasheetVersion: Mar-2006; PackageVersion: revC, Jul-2006; PackageReference: MXA20A; Publisher: Altium Limited; PackageDescription: Molded TSSOP, Jedec, 6.5 x 4.4 x 0.9mm Body, 20 Lead, 0.65mm Pitch, Exposed Pad; RoHS: Y; PinCount: 20; DigiKeyPartNumber: LM25005MH-ND; Code_JEDEC: MO-153-ACT; ComponentLink1Description: LM25005 Datasheet; ComponentLink1URL: http://www.national.com/ds/LM/LM25005.pdf; ComponentLink2Description: LM25005 Web Page; ComponentLink2URL: http://www.national.com/pf/LM/LM25005.html; ComponentLink3Description: MXA20A Package Drawing; ComponentLink3URL: http://www.national.com/packaging/folders/mxa20a.html
footprint MXA20A_N (TSOP, 20-Leads, Body 6.5x4.4mm, Pitch 0.65mm, Exposed Pad, IPC Medium Density)
footprint MXA20A_L (TSOP, 20-Leads, Body 6.5x4.4mm, Pitch 0.65mm, Exposed Pad, IPC High Density)
footprint MXA20A_M (TSOP, 20-Leads, Body 6.5x4.4mm, Pitch 0.65mm, Exposed Pad, IPC Low Density)
pins: 1 VCC (power), 2 SD (in), 3 VIN (power), 4 VIN (power), 5 SYNC (io), 6 COMP (out), 7 FB (in), 8 RT (in), 9 RAMP (in), 10 AGND (power), 11 SS (in), 12 OUT (out), 13 PGND (power), 14 PGND (power), 15 IS (in), 16 IS (in), 17 SW (power), 18 SW (power), 19 PRE (oc), 20 BST (in), 21 EP (power)

## LM25007MM
designator U?
42V, 0.5A Step-Down Switching Regulator; PartNumber: LM25007MM; Manufacturer: National Semiconductor; CompType: Switcher; PackageTopMarking: ZXTT*SLYB; Published: 4-Dec-2008; DatasheetVersion: Feb-2008; PackageVersion: revF, Apr-2008; PackageReference: MUA08A; Publisher: Altium Limited; PackageDescription: MINI SOIC, .118 x .118 x .034in, 8 Lead, .0256in Pitch; RoHS: Y; PinCount: 8; DigiKeyPartNumber: LM25007MMCT-ND; Code_JEDEC: MO-187-AA; ComponentLink1Description: LM25007 Datasheet; ComponentLink1URL: http://www.national.com/ds/LM/LM25007.pdf; ComponentLink2Description: LM25007 Web Page; ComponentLink2URL: http://www.national.com/pf/LM/LM25007.html; ComponentLink3Description: MUA08A Package Drawing; ComponentLink3URL: http://www.national.com/packaging/folders/mua08a.html
footprint MUA08A_N (TSOP, 8-Leads, Body 3x3mm, Pitch 0.65mm, IPC Medium Density)
footprint MUA08A_L (TSOP, 8-Leads, Body 3x3mm, Pitch 0.65mm, IPC High Density)
footprint MUA08A_M (TSOP, 8-Leads, Body 3x3mm, Pitch 0.65mm, IPC Low Density)
pins: 1 SW (power), 2 BST (in), 3 RCL (in), 4 RTN (power), 5 FB (in), 6 RON/SD (in), 7 VCC (power), 8 VIN (power)

## LM25007SD
designator U?
42V, 0.5A Step-Down Switching Regulator; PartNumber: LM25007SD; Manufacturer: National Semiconductor; CompType: Switcher; PackageTopMarking: NS*UZXYTT*25007SD; Published: 4-Dec-2008; DatasheetVersion: Feb-2008; PackageVersion: revA, Jun-2003; PackageReference: SDC08A; Publisher: Altium Limited; PackageDescription: LLP, Plastic, Dual, 4 x 4 x 0.8mm Body, 8 Lead, 0.8mm Pitch, No Pullback; RoHS: Y; PinCount: 8; DigiKeyPartNumber: LM25007SDCT-ND; ComponentLink1Description: LM25007 Datasheet; ComponentLink1URL: http://www.national.com/ds/LM/LM25007.pdf; ComponentLink2Description: LM25007 Web Page; ComponentLink2URL: http://www.national.com/pf/LM/LM25007.html; ComponentLink3Description: SDC08A Package Drawing; ComponentLink3URL: http://www.national.com/packaging/folders/sdc08a.html
footprint SDC08A (SON, 8-Leads, Body 4x4mm, Pitch 0.8mm, NSC Recommended)
pins: 1 SW (power), 2 BST (in), 3 RCL (in), 4 RTN (power), 5 FB (in), 6 RON/SD (in), 7 VCC (power), 8 VIN (power), 9 EP (power)

## LM25010MH
designator U?
42V, 1.0A Step-Down Switching Regulator; PartNumber: LM25010MH; Manufacturer: National Semiconductor; CompType: Switcher; PackageTopMarking: NSUZXYTT*L25010*MH; Published: 4-Dec-2008; DatasheetVersion: Feb-2006; PackageVersion: revA, Feb-2003; PackageReference: MXA14A; Publisher: Altium Limited; PackageDescription: Molded TSSOP, JEDEC, Exposed Pad, 5.0 x 4.4 x 0.9mm Body, 14 Lead, 0.65mm Pitch; RoHS: Y; PinCount: 14; DigiKeyPartNumber: LM25010MH-ND; Code_JEDEC: MO-153-ABT-1; ComponentLink1Description: LM25010 Datasheet; ComponentLink1URL: http://www.national.com/ds/LM/LM25010.pdf; ComponentLink2Description: LM25010 Web Page; ComponentLink2URL: http://www.national.com/pf/LM/LM25010.html; ComponentLink3Description: MXA14A Package Drawing; ComponentLink3URL: http://www.national.com/packaging/folders/mxa14a.html
footprint MXA14A_N (TSOP, 14-Leads, Body 5x4.4mm, Pitch 0.65mm, Exposed Pad, IPC Medium Density)
footprint MXA14A_L (TSOP, 14-Leads, Body 5x4.4mm, Pitch 0.65mm, Exposed Pad, IPC High Density)
footprint MXA14A_M (TSOP, 14-Leads, Body 5x4.4mm, Pitch 0.65mm, Exposed Pad, IPC Low Density)
pins: 1 NC, 2 SW (power), 3 BST (in), 4 ISEN (in), 5 SGND (power), 6 RTN (power), 7 NC, 8 NC, 9 FB (in), 10 SS (in), 11 RON/SD (in), 12 VCC (power), 13 VIN (power), 14 NC, 15 DAP (power)

## LM25010SD
designator U?
42V, 1.0A Step-Down Switching Regulator; PartNumber: LM25010SD; Manufacturer: National Semiconductor; CompType: Switcher; PackageTopMarking: NS*UZXYTT*25010SD; Published: 4-Dec-2008; DatasheetVersion: Feb-2006; PackageVersion: revA, May-2003; PackageReference: SDC10A; Publisher: Altium Limited; PackageDescription: LLP, Plastic, Dual, 4 x 4 x 0.8mm Body, 10 Lead, 0.8mm Pitch, No Pullback; RoHS: Y; PinCount: 10; DigiKeyPartNumber: LM25010SDCT-ND; ComponentLink1Description: LM25010 Datasheet; ComponentLink1URL: http://www.national.com/ds/LM/LM25010.pdf; ComponentLink2Description: LM25010 Web Page; ComponentLink2URL: http://www.national.com/pf/LM/LM25010.html; ComponentLink3Description: SDC10A Package Drawing; ComponentLink3URL: http://www.national.com/packaging/folders/sdc10a.html
footprint SDC10A (SON, 10-Leads, Body 4x4 mm, Pitch 0.8mm, NSC Recommended)
pins: 1 SW (power), 2 BST (in), 3 ISEN (in), 4 SGND (power), 5 RTN (power), 6 FB (in), 7 SS (in), 8 RON/SD (in), 9 VCC (power), 10 VIN (power), 11 DAP (power)

## LM25011MY
designator U?
42V, 2A Constant On-Time Switching Regulator with Adjustable Current Limit; PartNumber: LM25011MY; Manufacturer: National Semiconductor; CompType: Switcher; PackageTopMarking: ZXTT*SVUB; PowerWise: N; Published: 9-Oct-2009; DatasheetVersion: Jun-2009; PackageVersion: revA, May-2006; PackageReference: MUC10A; Publisher: Altium Limited; PackageDescription: Molded Mini-SO, Exposed Pad .118 x .118 x .034in Body, 10 Lead, .0197in Pitch; RoHS: Y; PinCount: 10; DigiKeyPartNumber: LM25011MYCT-ND; Code_JEDEC: MO-187-BAT; ComponentLink1Description: LM25011 Datasheet; ComponentLink1URL: http://www.national.com/ds/LM/LM25011.pdf; ComponentLink2Description: LM25011 Web Page; ComponentLink2URL: http://www.national.com/pf/LM/LM25011.html; ComponentLink3Description: MUC10A Package Page; ComponentLink3URL: http://www.national.com/packaging/folders/muc10a.html
footprint MUC10A_N (TSSOP, 10-Leads, Body 3x3mm, Pitch 0.5mm, Exposed Pad, IPC Medium Density)
footprint MUC10A_L (TSSOP, 10-Leads, Body 3x3mm, Pitch 0.5mm, Exposed Pad, IPC High Density)
footprint MUC10A_M (TSSOP, 10-Leads, Body 3x3mm, Pitch 0.5mm, Exposed Pad, IPC Low Density)
pins: 1 VIN (power), 2 RT (in), 3 PGD (out), 4 SS (in), 5 SGND (power), 6 FB (in), 7 CSG (power), 8 CS (in), 9 SW (in), 10 BST (in), 11 DAP (power)

## LM25037MT
designator U?
Dual-Mode PWM Controller With Alternating Outputs; PartNumber: LM25037MT; Manufacturer: National Semiconductor; CompType: Switcher; PackageTopMarking: NSUZXYTT*L25037*MT; Published: 4-Dec-2008; DatasheetVersion: Jun-2009; PackageVersion: revD, Jun-2003; PackageReference: MTC16; Publisher: Altium Limited; PackageDescription: Molded TSSOP, Jedec, 5 x 4.4 x 0.9mm Body, 16 Lead, 0.65mm Pitch; RoHS: Y; PinCount: 16; DigiKeyPartNumber: LM25037MT-ND; Code_JEDEC: MO-153-AB; ComponentLink1Description: LM25037 Datasheet; ComponentLink1URL: http://www.national.com/ds/LM/LM25037.pdf; ComponentLink2Description: LM25037 Web Page; ComponentLink2URL: http://www.national.com/pf/LM/LM25037.html; ComponentLink3Description: MTC16 Package Drawing; ComponentLink3URL: http://www.national.com/packaging/folders/mtc16.html
footprint MTC16_N (TSOP, 16-Leads, Body 5x4.4mm, Pitch 0.65mm, IPC Medium Density)
footprint MTC16_L (TSOP, 16-Leads, Body 5x4.4mm, Pitch 0.65mm, IPC High Density)
footprint MTC16_M (TSOP, 16-Leads, Body 5x4.4mm, Pitch 0.65mm, IPC Low Density)
pins: 1 RAMP (in), 2 UVLO (in), 3 COMP, 4 FB (in), 5 RT2 (in), 6 AGND (power), 7 RT1 (in), 8 CS (in), 9 RES (in), 10 SS (in), 11 PGND (power), 12 OUTB (out), 13 OUTA (out), 14 VCC (power), 15 REF (out), 16 VIN (power)

## LM25037QMT
designator U?
Dual-Mode PWM Controller With Alternating Outputs, Automotive Grade; PartNumber: LM25037QMT; Manufacturer: National Semiconductor; CompType: Switcher; PackageTopMarking: NSUZXYTT*M25037*MT; PowerWise: Y; Published: 9-Oct-2009; DatasheetVersion: Jun-2009; PackageVersion: revD, Jun-2003; PackageReference: MTC16; Publisher: Altium Limited; PackageDescription: Molded TSSOP, Jedec, 5 x 4.4 x 0.9mm Body, 16 Lead, 0.65mm Pitch; RoHS: Y; PinCount: 16; DigiKeyPartNumber: LM25037QMT-ND; Code_JEDEC: MO-153-AB; ComponentLink1Description: LM25037 Datasheet; ComponentLink1URL: http://www.national.com/ds/LM/LM25037.pdf; ComponentLink2Description: LM25037 Web Page; ComponentLink2URL: http://www.national.com/pf/LM/LM25037.html; ComponentLink3Description: MTC16 Package Page; ComponentLink3URL: http://www.national.com/packaging/folders/mtc16.html
footprint MTC16_N (TSOP, 16-Leads, Body 5x4.4mm, Pitch 0.65mm, IPC Medium Density)
footprint MTC16_L (TSOP, 16-Leads, Body 5x4.4mm, Pitch 0.65mm, IPC High Density)
footprint MTC16_M (TSOP, 16-Leads, Body 5x4.4mm, Pitch 0.65mm, IPC Low Density)
pins: 1 RAMP (in), 2 UVLO (in), 3 COMP, 4 FB (in), 5 RT2 (in), 6 AGND (power), 7 RT1 (in), 8 CS (in), 9 RES (in), 10 SS (in), 11 PGND (power), 12 OUTB (out), 13 OUTA (out), 14 VCC (power), 15 REF (out), 16 VIN (power)

## LM25061PMM-1
designator U?
Positive Low Voltage Power Limiting Hot Swap Controller; PartNumber: LM25061PMM-1; Manufacturer: National Semiconductor; CompType: Switcher; PackageTopMarking: ZXTT*SXSB; PowerWise: N; Published: 9-Oct-2009; DatasheetVersion: Jul-2009; PackageVersion: revB, Jul-2003; PackageReference: MUB10A; Publisher: Altium Limited; PackageDescription: Mini-SO, Molded, .118 x .118 x .034in Body, 10 Lead, .0197in Pitch; RoHS: Y; PinCount: 10; DigiKeyPartNumber: LM25061PMM-1-ND; Code_JEDEC: MO-187-BA; ComponentLink1Description: LM25061 Datasheet; ComponentLink1URL: http://www.national.com/ds/LM/LM25061.pdf; ComponentLink2Description: LM25061 Web Page; ComponentLink2URL: http://www.national.com/pf/LM/LM25061.html; ComponentLink3Description: MUB10A Package Page; ComponentLink3URL: http://www.national.com/packaging/folders/mub10a.html
footprint MUB10A_N (TSSOP, 10-Leads, Body 3x3mm, Pitch 0.5mm, IPC Medium Density)
footprint MUB10A_L (TSSOP, 10-Leads, Body 3x3mm, Pitch 0.5mm, IPC High Density)
footprint MUB10A_M (TSSOP, 10-Leads, Body 3x3mm, Pitch 0.5mm, IPC Low Density)
pins: 1 SENSE (in), 2 VIN (power), 3 UVLO/EN (in), 4 FB (in), 5 GND (power), 6 TIMER (in), 7 PWR (in), 8 PGD (oc), 9 OUT (power), 10 GATE (out)

## LM25061PMM-2
designator U?
Positive Low Voltage Power Limiting Hot Swap Controller; PartNumber: LM25061PMM-2; Manufacturer: National Semiconductor; CompType: Switcher; PackageTopMarking: ZXTT*SXRB; PowerWise: N; Published: 9-Oct-2009; DatasheetVersion: Jul-2009; PackageVersion: revB, Jul-2003; PackageReference: MUB10A; Publisher: Altium Limited; PackageDescription: Mini-SO, Molded, .118 x .118 x .034in Body, 10 Lead, .0197in Pitch; RoHS: Y; PinCount: 10; DigiKeyPartNumber: LM25061PMM-2-ND; Code_JEDEC: MO-187-BA; ComponentLink1Description: LM25061 Datasheet; ComponentLink1URL: http://www.national.com/ds/LM/LM25061.pdf; ComponentLink2Description: LM25061 Web Page; ComponentLink2URL: http://www.national.com/pf/LM/LM25061.html; ComponentLink3Description: MUB10A Package Page; ComponentLink3URL: http://www.national.com/packaging/folders/mub10a.html
footprint MUB10A_N (TSSOP, 10-Leads, Body 3x3mm, Pitch 0.5mm, IPC Medium Density)
footprint MUB10A_L (TSSOP, 10-Leads, Body 3x3mm, Pitch 0.5mm, IPC High Density)
footprint MUB10A_M (TSSOP, 10-Leads, Body 3x3mm, Pitch 0.5mm, IPC Low Density)
pins: 1 SENSE (in), 2 VIN (power), 3 UVLO/EN (in), 4 FB (in), 5 GND (power), 6 TIMER (in), 7 PWR (in), 8 PGD (oc), 9 OUT (power), 10 GATE (out)

## LM25069PMM-1
designator U?
Positive Low Voltage Power Limiting Hot Swap Controller; PartNumber: LM25069PMM-1; Manufacturer: National Semiconductor; CompType: Switcher; PackageTopMarking: ZXTT*SXNB; PowerWise: N; Published: 9-Oct-2009; DatasheetVersion: Jul-2009; PackageVersion: revB, Jul-2003; PackageReference: MUB10A; Publisher: Altium Limited; PackageDescription: Mini-SO, Molded, .118 x .118 x .034in Body, 10 Lead, .0197in Pitch; RoHS: Y; PinCount: 10; DigiKeyPartNumber: LM25069PMM-1-ND; Code_JEDEC: MO-187-BA; ComponentLink1Description: LM25069 Datasheet; ComponentLink1URL: http://www.national.com/ds/LM/LM25069.pdf; ComponentLink2Description: LM25069 Web Page; ComponentLink2URL: http://www.national.com/pf/LM/LM25069.html; ComponentLink3Description: MUB10A Package Page; ComponentLink3URL: http://www.national.com/packaging/folders/mub10a.html
footprint MUB10A_N (TSSOP, 10-Leads, Body 3x3mm, Pitch 0.5mm, IPC Medium Density)
footprint MUB10A_L (TSSOP, 10-Leads, Body 3x3mm, Pitch 0.5mm, IPC High Density)
footprint MUB10A_M (TSSOP, 10-Leads, Body 3x3mm, Pitch 0.5mm, IPC Low Density)
pins: 1 SENSE (in), 2 VIN (power), 3 UVLO/EN (in), 4 OVLO (in), 5 GND (power), 6 TIMER (in), 7 PWR (in), 8 PGD (oc), 9 OUT (power), 10 GATE (out)

## LM25069PMM-2
designator U?
Positive Low Voltage Power Limiting Hot Swap Controller; PartNumber: LM25069PMM-2; Manufacturer: National Semiconductor; CompType: Switcher; PackageTopMarking: ZXTT*SXLB; PowerWise: N; Published: 9-Oct-2009; DatasheetVersion: Jul-2009; PackageVersion: revB, Jul-2003; PackageReference: MUB10A; Publisher: Altium Limited; PackageDescription: Mini-SO, Molded, .118 x .118 x .034in Body, 10 Lead, .0197in Pitch; RoHS: Y; PinCount: 10; DigiKeyPartNumber: LM25069PMM-2-ND; Code_JEDEC: MO-187-BA; ComponentLink1Description: LM25069 Datasheet; ComponentLink1URL: http://www.national.com/ds/LM/LM25069.pdf; ComponentLink2Description: LM25069 Web Page; ComponentLink2URL: http://www.national.com/pf/LM/LM25069.html; ComponentLink3Description: MUB10A Package Page; ComponentLink3URL: http://www.national.com/packaging/folders/mub10a.html
footprint MUB10A_N (TSSOP, 10-Leads, Body 3x3mm, Pitch 0.5mm, IPC Medium Density)
footprint MUB10A_L (TSSOP, 10-Leads, Body 3x3mm, Pitch 0.5mm, IPC High Density)
footprint MUB10A_M (TSSOP, 10-Leads, Body 3x3mm, Pitch 0.5mm, IPC Low Density)
pins: 1 SENSE (in), 2 VIN (power), 3 UVLO/EN (in), 4 OVLO (in), 5 GND (power), 6 TIMER (in), 7 PWR (in), 8 PGD (oc), 9 OUT (power), 10 GATE (out)

## LM25115AMT
designator U?
Secondary Side Post Regulator/DC-DC Converter with Power-Up/Power-Down Tracking; PartNumber: LM25115AMT; Manufacturer: National Semiconductor; CompType: Switcher; PackageTopMarking: NSUZXYTT*L25115*AMT; Published: 4-Dec-2008; DatasheetVersion: Nov-2005; PackageVersion: revD, Jun-2003; PackageReference: MTC16; Publisher: Altium Limited; PackageDescription: Molded TSSOP, Jedec, 5 x 4.4 x 0.9mm Body, 16 Lead, 0.65mm Pitch; RoHS: Y; PinCount: 16; DigiKeyPartNumber: LM25115AMT-ND; Code_JEDEC: MO-153-AB; ComponentLink1Description: LM25115A Datasheet; ComponentLink1URL: http://www.national.com/ds/LM/LM25115A.pdf; ComponentLink2Description: LM25115A Web Page; ComponentLink2URL: http://www.national.com/pf/LM/LM25115A.html; ComponentLink3Description: MTC16 Package Drawing; ComponentLink3URL: http://www.national.com/packaging/folders/mtc16.html
footprint MTC16_N (TSOP, 16-Leads, Body 5x4.4mm, Pitch 0.65mm, IPC Medium Density)
footprint MTC16_L (TSOP, 16-Leads, Body 5x4.4mm, Pitch 0.65mm, IPC High Density)
footprint MTC16_M (TSOP, 16-Leads, Body 5x4.4mm, Pitch 0.65mm, IPC Low Density)
pins: 1 CS (in), 2 VOUT (in), 3 AGND (power), 4 CO (out), 5 COMP, 6 FB (in), 7 SS (in), 8 RAMP (in), 9 SYNC (in), 10 PGND (power), 11 LO (out), 12 VCC (power), 13 HS, 14 HO (out), 15 HB, 16 VBIAS (in)